# Altium schematic symbol library Oscillator.SchLib: 1 symbol
Pins are listed as number, name and electrical type; pins without a type are passive.

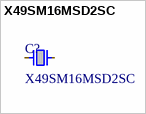
[diagram p0: symbol X49SM16MSD2SC]

## X49SM16MSD2SC
designator C?
16MHz Crystal Oscillator 20pF ±20ppm ±30ppm HC-49S-SMD Crystals ROHS; Manufacturer: YXC Crystal Oscillators; Mfr. Part #: X49SM16MSD2SC; LCSC Part #: C12676; Package: HC-49S-SMD; Link: https://www.lcsc.com/product-detail/C12676.html?s_z=n_Crystal%2520Oscillators%2520X49%252016Mhz; Load Capacitance: 20pF
footprint X49SM16MSD2SC
pins: 30, 31